# EAGLE library part ENC28J60 (library SparkFun)
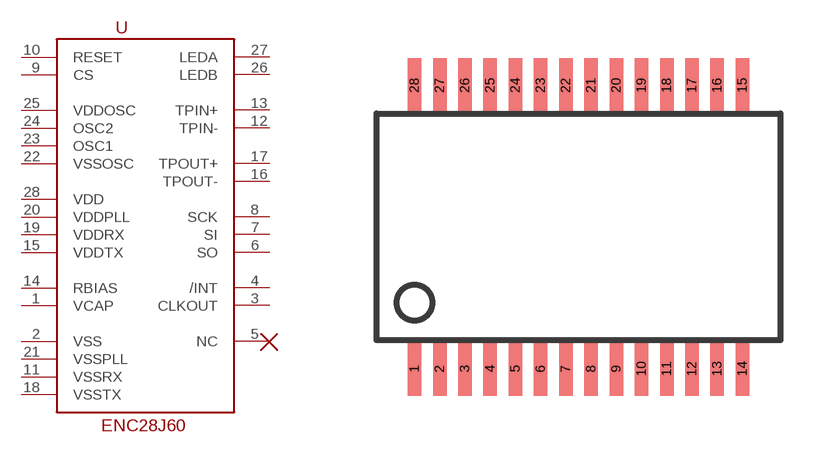
[diagram p273: symbol with the pads of SSOP28DB; footprint SSOP28DB]

Designator prefix U

## ENC28J60  [SSOP28DB]
1  VCAP
2  VSS
3  CLKOUT
4  /INT
5  NC
6  SO
7  SI
8  SCK
9  CS
10  RESET
11  VSSRX
12  TPIN-
13  TPIN+
14  RBIAS
15  VDDTX
16  TPOUT-
17  TPOUT+
18  VSSTX
19  VDDRX
20  VDDPLL
21  VSSPLL
22  VSSOSC
23  OSC1
24  OSC2
25  VDDOSC
26  LEDB
27  LEDA
28  VDD

## Footprint SSOP28DB (pad centres in mm)
Small Shrink Outline Package
smd 0.348 x 1.397: 1 -4.225,-3.656; 2 -3.575,-3.656; 3 -2.925,-3.656; 4 -2.275,-3.656; 5 -1.625,-3.656; 6 -0.975,-3.656; 7 -0.325,-3.656; 8 0.325,-3.656; 9 0.975,-3.656; 10 1.625,-3.656; 11 2.275,-3.656; 12 2.925,-3.656; 13 3.575,-3.656; 14 4.225,-3.656; 15 4.225,3.656; 16 3.575,3.656; 17 2.925,3.656; 18 2.275,3.656; 19 1.625,3.656; 20 0.975,3.656; 21 0.325,3.656; 22 -0.325,3.656; 23 -0.975,3.656; 24 -1.625,3.656; 25 -2.275,3.656; 26 -2.925,3.656; 27 -3.575,3.656; 28 -4.225,3.656